# Altium footprint library ionis.PcbLib: 70 footprints (part 2 of 5)
Each footprint in its own frame and in the unit in brackets; x right, y up, seen from the top. Pads: shape width x height; smd on the part's side, far side on the other; paste and mask are expansions set on the pad; w line width, h text height; cw(c..) or ccw(c..) is an arc to the next point about the centre after c.
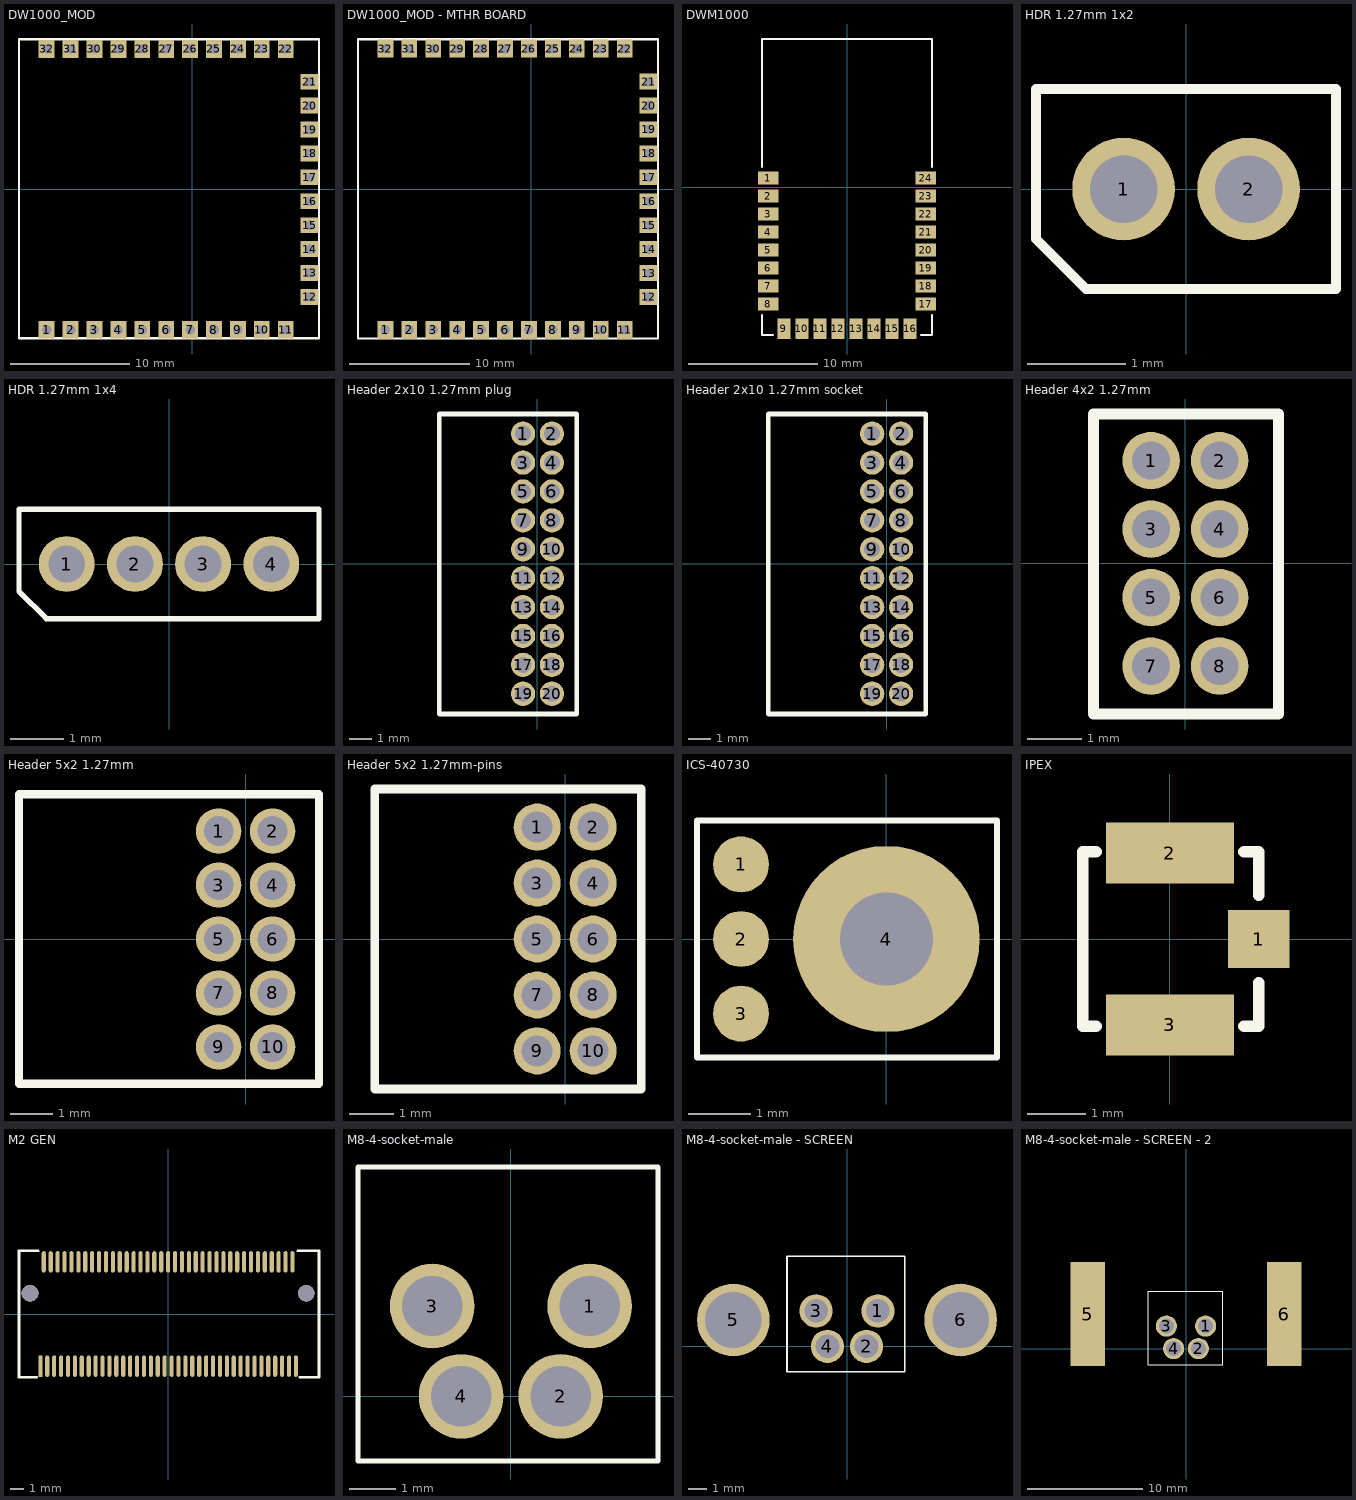
[diagram p1: the footprints below, top view; thin cyan lines are the x and y axes]

## DW1000_MOD [mm]
pads (32):
  rect 1.321x1.5 hole 0.8: 1(-12.192,-11.75) 2(-10.192,-11.75) 3(-8.192,-11.75) 4(-6.192,-11.75) 5(-4.192,-11.75) 6(-2.192,-11.75) 7(-0.192,-11.75) 8(1.808,-11.75) 9(3.808,-11.75) 10(5.808,-11.75) 11(7.808,-11.75) 22(7.808,11.75) 23(5.808,11.75) 24(3.808,11.75) 25(1.808,11.75) 26(-0.192,11.75) 27(-2.192,11.75) 28(-4.192,11.75) 29(-6.192,11.75) 30(-8.192,11.75) 31(-10.192,11.75) 32(-12.192,11.75)
  rect 1.5x1.321 hole 0.8: 12(9.808,-9) 13(9.808,-7) 14(9.808,-5) 15(9.808,-3) 16(9.808,-1) 17(9.808,1) 18(9.808,3) 19(9.808,5) 20(9.808,7) 21(9.808,9)
Top Overlay:
  lines w0.2: -14.503,-12.471 10.592,-12.471 10.592,12.548 -14.503,12.548 -14.503,-0.881 -14.503,-12.471
Bottom Solder:
  rectangle: 4.699,6.35 7.699,9.35
  rectangle: 0.457,6.35 3.457,9.35
  rectangle: 4.75,2.286 7.75,5.286
  rectangle: 4.75,-4.674 7.75,-1.674
  rectangle: 4.851,-9.322 7.851,-6.322
  rectangle: 0.432,-9.373 3.432,-6.373
  rectangle: -3.734,-9.373 -0.734,-6.373
  rectangle: 0.533,2.235 3.533,5.235
  rectangle: -3.912,6.299 -0.912,9.299
  rectangle: -8.357,6.299 -5.357,9.299
  rectangle: -12.548,6.248 -9.548,9.248
  rectangle: -3.886,2.159 -0.886,5.159
  rectangle: -8.23,2.083 -5.23,5.083
  rectangle: -12.624,-9.474 -9.624,-6.474
  rectangle: -12.243,0.533 -9.243,3.533
  rectangle: -12.217,-2.362 -9.217,0.638
  rectangle: -12.243,-3.734 -9.243,-0.734

## DW1000_MOD - MTHR BOARD [mm]
pads (32):
  rect 1.321x1.5 hole 0.8: 1(-12.192,-11.75) 2(-10.192,-11.75) 3(-8.192,-11.75) 4(-6.192,-11.75) 5(-4.192,-11.75) 6(-2.192,-11.75) 7(-0.192,-11.75) 8(1.808,-11.75) 9(3.808,-11.75) 10(5.808,-11.75) 11(7.808,-11.75) 22(7.808,11.75) 23(5.808,11.75) 24(3.808,11.75) 25(1.808,11.75) 26(-0.192,11.75) 27(-2.192,11.75) 28(-4.192,11.75) 29(-6.192,11.75) 30(-8.192,11.75) 31(-10.192,11.75) 32(-12.192,11.75)
  rect 1.5x1.321 hole 0.8: 12(9.808,-9) 13(9.808,-7) 14(9.808,-5) 15(9.808,-3) 16(9.808,-1) 17(9.808,1) 18(9.808,3) 19(9.808,5) 20(9.808,7) 21(9.808,9)
Top Overlay:
  lines w0.2: -14.478,-12.471 -14.478,-1.567 -14.478,12.548 10.592,12.548 10.592,-12.471 -14.478,-12.471
Bottom Solder:
  rectangle: 4.445,6.426 7.445,9.426
  rectangle: 0.203,6.426 3.203,9.426
  rectangle: 4.496,2.362 7.496,5.362
  rectangle: 4.496,-4.597 7.496,-1.597
  rectangle: 4.597,-9.246 7.597,-6.246
  rectangle: 0.178,-9.296 3.178,-6.296
  rectangle: -3.988,-9.296 -0.988,-6.296
  rectangle: 0.279,2.311 3.279,5.311
  rectangle: -4.166,6.375 -1.166,9.375
  rectangle: -8.611,6.375 -5.611,9.375
  rectangle: -12.802,6.325 -9.802,9.325
  rectangle: -4.14,2.235 -1.14,5.235
  rectangle: -8.484,2.159 -5.484,5.159
  rectangle: -12.878,-9.398 -9.878,-6.398
  rectangle: -12.497,0.61 -9.497,3.61
  rectangle: -12.471,-2.286 -9.471,0.714
  rectangle: -12.497,-3.658 -9.497,-0.658

## DWM1000 [mil]
pads (24):
  rect 63x40 smd: 1(-240.5,27.56) 2(-240.5,-27.56) 3(-240.5,-82.68) 4(-240.5,-137.8) 5(-240.5,-192.91) 6(-240.5,-248.03) 7(-240.5,-303.15) 8(-240.5,-358.27) 17(240.5,-358.27) 18(240.5,-303.15) 19(240.5,-248.03) 20(240.5,-192.91) 21(240.5,-137.8) 22(240.5,-82.68) 23(240.5,-27.56) 24(240.5,27.56)
  rect 40x63 smd: 9(-192.91,-433.5) 10(-137.8,-433.5) 11(-82.68,-433.5) 12(-27.56,-433.5) 13(27.56,-433.5) 14(82.68,-433.5) 15(137.8,-433.5) 16(192.91,-433.5)
Top Overlay:
  lines w6: -260,-391.37 -260,-453 -226.01,-453 ; -260,60.66 -260,453 260,453 260,60.66 ; 226.01,-453 260,-453 260,-391.37

## HDR 1.27mm 1x2 [mil] "header"
height 181.1
pads (2):
  round 41 hole 27: 1(-25,0) 2(25,0)
Top Overlay:
  lines w4: -60,-20 -60,40 60,40 60,-40 -40,-40 -60,-20

## HDR 1.27mm 1x4 [mil] "header"
height 181.1
pads (4):
  round 41 hole 27: 1(-75,0) 2(-25,0) 3(25,0) 4(75,0)
Top Overlay:
  lines w4: -110,-20 -110,40 110,40 110,-40 -90,-40 -110,-20

## Header 2x10 1.27mm plug [mm]
pads (20):
  round 1.067 hole 0.7: 1(-0.635,5.715) 2(0.635,5.715) 3(-0.635,4.445) 4(0.635,4.445) 5(-0.635,3.175) 6(0.635,3.175) 7(-0.635,1.905) 8(0.635,1.905) 9(-0.635,0.635) 10(0.635,0.635) 11(-0.635,-0.635) 12(0.635,-0.635) 13(-0.635,-1.905) 14(0.635,-1.905) 15(-0.635,-3.175) 16(0.635,-3.175) 17(-0.635,-4.445) 18(0.635,-4.445) 19(-0.635,-5.715) 20(0.635,-5.715)
Top Overlay:
  lines w0.2: -4.318,-6.604 1.727,-6.604 1.727,6.579 -4.318,6.579 -4.318,-6.604

## Header 2x10 1.27mm socket [mm]
pads (20):
  round 1.067 hole 0.7: 1(-0.635,5.715) 2(0.635,5.715) 3(-0.635,4.445) 4(0.635,4.445) 5(-0.635,3.175) 6(0.635,3.175) 7(-0.635,1.905) 8(0.635,1.905) 9(-0.635,0.635) 10(0.635,0.635) 11(-0.635,-0.635) 12(0.635,-0.635) 13(-0.635,-1.905) 14(0.635,-1.905) 15(-0.635,-3.175) 16(0.635,-3.175) 17(-0.635,-4.445) 18(0.635,-4.445) 19(-0.635,-5.715) 20(0.635,-5.715)
Top Overlay:
  lines w0.2: -5.207,-6.604 -5.207,6.579 1.727,6.579 1.727,-6.604 -5.207,-6.604

## Header 4x2 1.27mm [mm]
pads (8):
  round 1.067 hole 0.7: 1(-0.635,1.905) 2(0.635,1.905) 3(-0.635,0.635) 4(0.635,0.635) 5(-0.635,-0.635) 6(0.635,-0.635) 7(-0.635,-1.905) 8(0.635,-1.905)
Top Overlay:
  lines w0.2: -1.702,-2.794 1.727,-2.794 1.727,2.769 -1.702,2.769 -1.702,-2.794

## Header 5x2 1.27mm [mm]
pads (10):
  round 1.067 hole 0.7: 1(-0.635,2.54) 2(0.635,2.54) 3(-0.635,1.27) 4(0.635,1.27) 5(-0.635,0) 6(0.635,0) 7(-0.635,-1.27) 8(0.635,-1.27) 9(-0.635,-2.54) 10(0.635,-2.54)
Top Overlay:
  lines w0.2: -5.334,-3.404 1.727,-3.404 1.727,3.404 -5.334,3.404 -5.334,-3.404

## Header 5x2 1.27mm-pins [mm]
pads (10):
  round 1.067 hole 0.7: 1(-0.635,2.54) 2(0.635,2.54) 3(-0.635,1.27) 4(0.635,1.27) 5(-0.635,0) 6(0.635,0) 7(-0.635,-1.27) 8(0.635,-1.27) 9(-0.635,-2.54) 10(0.635,-2.54)
Top Overlay:
  lines w0.2: -4.318,-3.404 -4.318,3.404 1.727,3.404 1.727,-3.404 -4.318,-3.404

## ICS-40730 [mm]
pads (4):
  round 0.9 smd: 1(-2.34,1.2) 2(-2.34,0) 3(-2.34,-1.2)
  round 3 smd: 4(0,0)
via 0,0 diameter 1.5 hole 1.5
Top Overlay:
  lines w0.102: -3.048,-1.905 1.778,-1.905 1.778,1.905 -3.048,1.905 -3.048,-1.905
Top Solder:
  circle w0.5: c0,0 r1.3

## IPEX [mm]
pads (3):
  rect 1.05x1 smd: 1(1.525,0)
  rect 2.2x1.05 smd: 2(0,1.475) 3(0,-1.475)
Top Overlay:
  lines w0.2: -1.27,-1.5 -1.5,-1.5 -1.5,1.5 -1.27,1.5 ; 1.27,-1.5 1.524,-1.5 1.524,-0.75 ; 1.27,1.5 1.524,1.5 1.524,0.75

## M2 GEN [mm]
pads (75):
  oval 0.3x1.55 smd: 1(9.25,-3.775) 2(9,3.775) 3(8.75,-3.775) 4(8.5,3.775) 5(8.25,-3.775) 6(8,3.775) 7(7.75,-3.775) 8(7.5,3.775) 9(7.25,-3.775) 10(7,3.775) 11(6.75,-3.775) 12(6.5,3.775) 13(6.25,-3.775) 14(6,3.775) 15(5.75,-3.775) 16(5.5,3.775) 17(5.25,-3.775) 18(5,3.775) 19(4.75,-3.775) 20(4.5,3.775) 21(4.25,-3.775) 22(4,3.775) 23(3.75,-3.775) 24(3.5,3.775) 25(3.25,-3.775) 26(3,3.775) 27(2.75,-3.775) 28(2.5,3.775) 29(2.25,-3.775) 30(2,3.775) 31(1.75,-3.775) 32(1.5,3.775) 33(1.25,-3.775) 34(1,3.775) 35(0.75,-3.775) 36(0.5,3.775) 37(0.25,-3.775) 38(0,3.775) 39(-0.25,-3.775) 40(-0.5,3.775) 41(-0.75,-3.775) 42(-1,3.775) 43(-1.25,-3.775) 44(-1.5,3.775) 45(-1.75,-3.775) 46(-2,3.775) 47(-2.25,-3.775) 48(-2.5,3.775) 49(-2.75,-3.775) 50(-3,3.775) 51(-3.25,-3.775) 52(-3.5,3.775) 53(-3.75,-3.775) 54(-4,3.775) 55(-4.25,-3.775) 56(-4.5,3.775) 57(-4.75,-3.775) 58(-5,3.775) 59(-5.25,-3.775) 60(-5.5,3.775) 61(-5.75,-3.775) 62(-6,3.775) 63(-6.25,-3.775) 64(-6.5,3.775) 65(-6.75,-3.775) 66(-7,3.775) 67(-7.25,-3.775) 68(-7.5,3.775) 69(-7.75,-3.775) 70(-8,3.775) 71(-8.25,-3.775) 72(-8.5,3.775) 73(-8.75,-3.775) 74(-9,3.775)
  rect 0.3x1.55 smd: 75(-9.25,-3.775)
via -10,1.5 diameter 1.2 hole 1.2
via 10,1.5 diameter 1.2 hole 1.2
Top Overlay:
  lines w0.2: -10.795,-3.429 -10.795,4.572 -9.398,4.572 ; -10.795,-0.125 -10.795,-4.572 -9.525,-4.572 ; 9.398,4.572 10.922,4.572 10.922,-4.572 9.525,-4.572

## M8-4-socket-male [mm]
pads (4):
  round 1.829 hole 1.3: 1(1.7,1.95) 2(1.075,0) 3(-1.7,1.95) 4(-1.075,0)
Top Overlay:
  lines w0.102: -3.302,-1.397 3.175,-1.397 3.175,4.953 -3.302,4.953 -3.302,-1.397

## M8-4-socket-male - SCREEN [mm]
pads (6):
  round 1.829 hole 1.3: 1(1.7,1.95) 2(1.075,0) 3(-1.7,1.95) 4(-1.075,0)
  round 4 hole 3.1: 5(-6.25,1.45) 6(6.25,1.45)
Top Overlay:
  lines w0.102: -3.302,-1.397 -3.302,4.953 3.175,4.953 3.175,-1.397 -3.302,-1.397

## M8-4-socket-male - SCREEN - 2 [mm]
pads (6):
  round 1.829 hole 1.3: 1(1.7,1.95) 2(1.075,0) 3(-1.7,1.95) 4(-1.075,0)
  rect 3x9 smd: 5(-8.5,3) 6(8.5,3)
Top Overlay:
  lines w0.102: -3.277,-1.397 -3.277,4.953 3.2,4.953 3.2,-1.397 -3.277,-1.397